# Altium schematic symbol library kmilo17pet-LT_OpAmp_LT2000.SchLib: 1710 symbols (part 12 of 75)
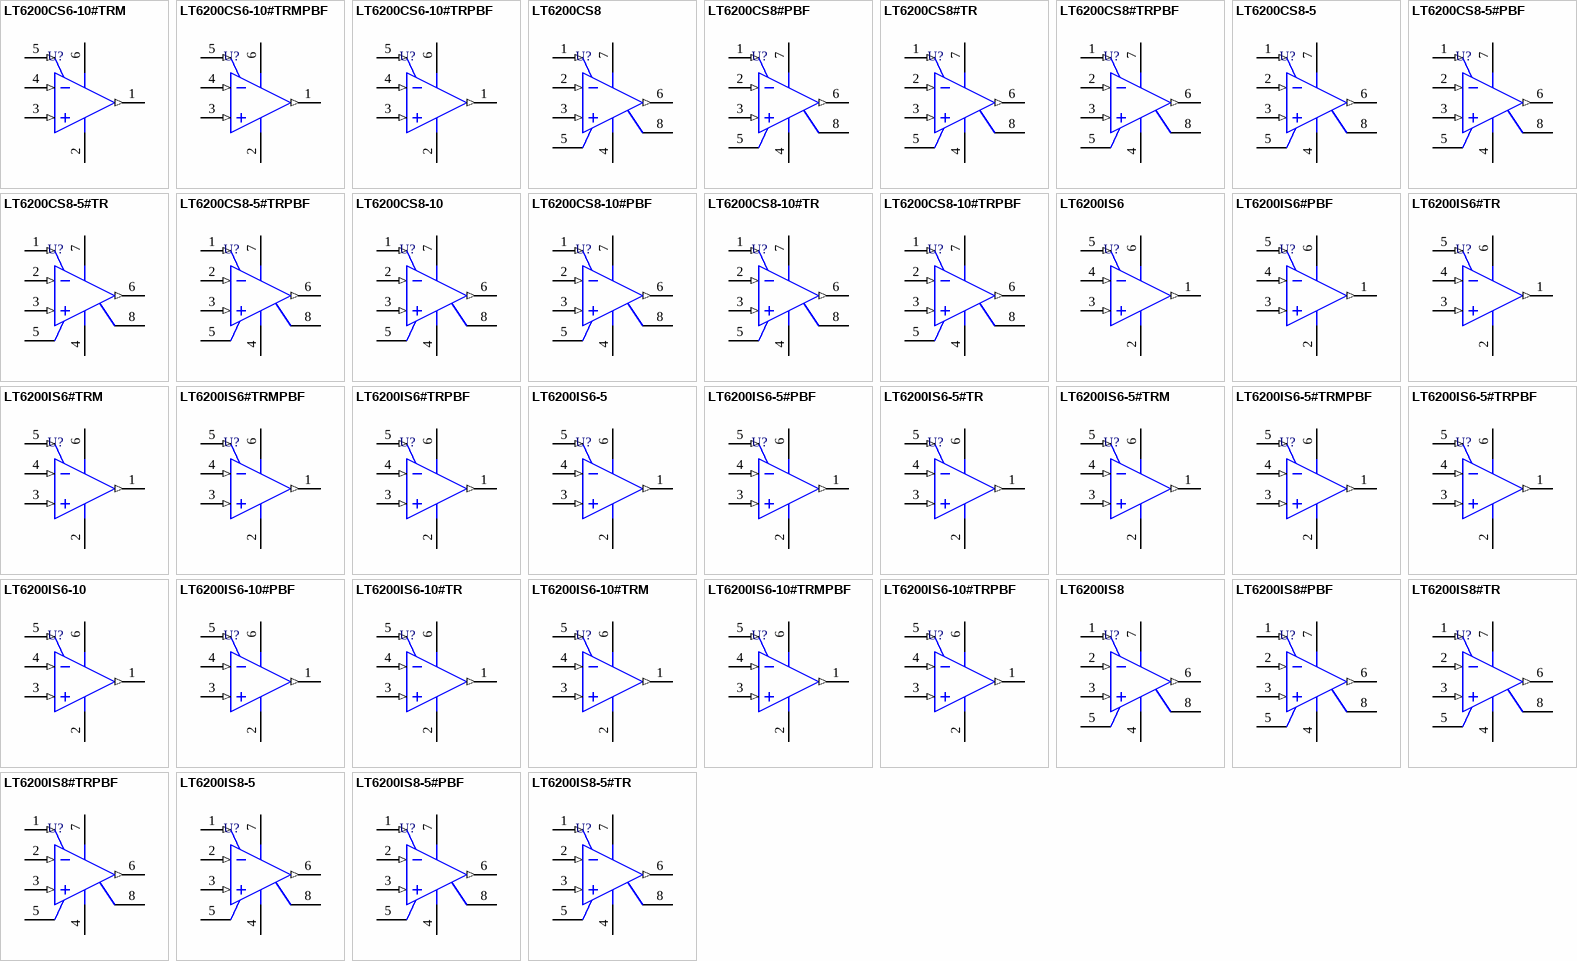
[diagram p91: symbols LT6200CS6-10#TRM to LT6200IS8-5#TR]

## LT6200IS6-5#TRM
designator U?
Single Channel, Low Noise, High Speed Operational Amplifier, RRIO, 750 MHz Typical GBW, 210 V/us Typical SR, 2.5 to 12.6 V, 6-Pin SOT23 (S6-6), Industrial, Mini Reel; Linear Technology Part Number: LT6200-5; Manufacturer: Linear Technology; PartNumber: LT6200IS6-5#TRM; Channels (#): 1; GBW (MHz) Typical: 750; Is (mA) Typical: 20; SR (V/us) Typical: 210; Vos (mV) Typical: 0.1; Vs Max (V): 12.6; Vs Min (V): 2.5; DatasheetVersion: Rev. F; PackageReference: LT-S6-6-TSOT-23; PackageDescription: 6-Pin Plastic TSOT-23, Body 2.9 x 1.63 mm, Pitch 0.95 mm; Supplier 1: Digi-Key; Supplier Part Number 1: LT6200IS6-5#TRM-ND; Packing: Mini Reel; Type: VFB; Vos (mV) Guaranteed: 1; Mounting Technology: Surface Mount; Code_JEDEC: MO-193; ComponentLink1Description: Manufacturer URL; ComponentLink1URL: http://www.linear.com/; ComponentLink2Description: Datasheet; ComponentLink2URL: http://cds.linear.com/docs/en/datasheet/62001ff.pdf; ComponentLink3Description: Package Specification; ComponentLink3URL: http://cds.linear.com/docs/en/packaging/SOT_6_05-08-1636.pdf
footprint LT-S6-6-TSOT-23_N (SOT23, 6-Leads, Body 2.90x1.63mm, Pitch 0.95mm, IPC Medium Density)
footprint LT-S6-6-TSOT-23_L (SOT23, 6-Leads, Body 2.90x1.63mm, Pitch 0.95mm, IPC High Density)
footprint LT-S6-6-TSOT-23_M (SOT23, 6-Leads, Body 2.90x1.63mm, Pitch 0.95mm, IPC Low Density)
pins: 1 OUT (out), 2 V- (power), 3 +IN (in), 4 -IN (in), 5 ~{SHDN} (in), 6 V+ (power)

## LT6200IS6-5#TRMPBF
designator U?
Single Channel, Low Noise, High Speed Operational Amplifier, RRIO, 750 MHz Typical GBW, 210 V/us Typical SR, 2.5 to 12.6 V, 6-Pin SOT23 (S6-6), Industrial, Pb-Free, Mini Reel; Linear Technology Part Number: LT6200-5; Manufacturer: Linear Technology; PartNumber: LT6200IS6-5#TRMPBF; Channels (#): 1; GBW (MHz) Typical: 750; Is (mA) Typical: 20; SR (V/us) Typical: 210; Vos (mV) Typical: 0.1; Vs Max (V): 12.6; Vs Min (V): 2.5; DatasheetVersion: Rev. F; PackageReference: LT-S6-6-TSOT-23; PackageDescription: 6-Pin Plastic TSOT-23, Body 2.9 x 1.63 mm, Pitch 0.95 mm; Supplier 1: Digi-Key; Supplier Part Number 1: LT6200IS6-5#TRMPBF-ND; Packing: Mini Reel; RoHS: Pb-Free; Type: VFB; Vos (mV) Guaranteed: 1; Mounting Technology: Surface Mount; Code_JEDEC: MO-193; ComponentLink1Description: Manufacturer URL; ComponentLink1URL: http://www.linear.com/; ComponentLink2Description: Datasheet; ComponentLink2URL: http://cds.linear.com/docs/en/datasheet/62001ff.pdf; ComponentLink3Description: Package Specification; ComponentLink3URL: http://cds.linear.com/docs/en/packaging/SOT_6_05-08-1636.pdf
footprint LT-S6-6-TSOT-23_N (SOT23, 6-Leads, Body 2.90x1.63mm, Pitch 0.95mm, IPC Medium Density)
footprint LT-S6-6-TSOT-23_L (SOT23, 6-Leads, Body 2.90x1.63mm, Pitch 0.95mm, IPC High Density)
footprint LT-S6-6-TSOT-23_M (SOT23, 6-Leads, Body 2.90x1.63mm, Pitch 0.95mm, IPC Low Density)
pins: 1 OUT (out), 2 V- (power), 3 +IN (in), 4 -IN (in), 5 ~{SHDN} (in), 6 V+ (power)

## LT6200IS6-5#TRPBF
designator U?
Single Channel, Low Noise, High Speed Operational Amplifier, RRIO, 750 MHz Typical GBW, 210 V/us Typical SR, 2.5 to 12.6 V, 6-Pin SOT23 (S6-6), Industrial, Pb-Free, Reel; Linear Technology Part Number: LT6200-5; Manufacturer: Linear Technology; PartNumber: LT6200IS6-5#TRPBF; Channels (#): 1; GBW (MHz) Typical: 750; Is (mA) Typical: 20; SR (V/us) Typical: 210; Vos (mV) Typical: 0.1; Vs Max (V): 12.6; Vs Min (V): 2.5; DatasheetVersion: Rev. F; PackageReference: LT-S6-6-TSOT-23; PackageDescription: 6-Pin Plastic TSOT-23, Body 2.9 x 1.63 mm, Pitch 0.95 mm; Supplier 1: Digi-Key; Supplier Part Number 1: LT6200IS6-5#TRPBF-ND; Packing: Reel; RoHS: Pb-Free; Type: VFB; Vos (mV) Guaranteed: 1; Mounting Technology: Surface Mount; Code_JEDEC: MO-193; ComponentLink1Description: Manufacturer URL; ComponentLink1URL: http://www.linear.com/; ComponentLink2Description: Datasheet; ComponentLink2URL: http://cds.linear.com/docs/en/datasheet/62001ff.pdf; ComponentLink3Description: Package Specification; ComponentLink3URL: http://cds.linear.com/docs/en/packaging/SOT_6_05-08-1636.pdf
footprint LT-S6-6-TSOT-23_N (SOT23, 6-Leads, Body 2.90x1.63mm, Pitch 0.95mm, IPC Medium Density)
footprint LT-S6-6-TSOT-23_L (SOT23, 6-Leads, Body 2.90x1.63mm, Pitch 0.95mm, IPC High Density)
footprint LT-S6-6-TSOT-23_M (SOT23, 6-Leads, Body 2.90x1.63mm, Pitch 0.95mm, IPC Low Density)
pins: 1 OUT (out), 2 V- (power), 3 +IN (in), 4 -IN (in), 5 ~{SHDN} (in), 6 V+ (power)

## LT6200IS6-10
designator U?
Single Channel, Low Noise, High Speed Operational Amplifier, RRIO, 1450 MHz Typical GBW, 340 V/us Typical SR, 2.5 to 12.6 V, 6-Pin SOT23 (S6-6), Industrial; Linear Technology Part Number: LT6200-10; Manufacturer: Linear Technology; PartNumber: LT6200IS6-10; Channels (#): 1; GBW (MHz) Typical: 1450; Is (mA) Typical: 20; SR (V/us) Typical: 340; Vos (mV) Typical: 0.1; Vs Max (V): 12.6; Vs Min (V): 2.5; DatasheetVersion: Rev. F; PackageReference: LT-S6-6-TSOT-23; PackageDescription: 6-Pin Plastic TSOT-23, Body 2.9 x 1.63 mm, Pitch 0.95 mm; Type: VFB; Vos (mV) Guaranteed: 1; Mounting Technology: Surface Mount; Code_JEDEC: MO-193; ComponentLink1Description: Manufacturer URL; ComponentLink1URL: http://www.linear.com/; ComponentLink2Description: Datasheet; ComponentLink2URL: http://cds.linear.com/docs/en/datasheet/62001ff.pdf; ComponentLink3Description: Package Specification; ComponentLink3URL: http://cds.linear.com/docs/en/packaging/SOT_6_05-08-1636.pdf
footprint LT-S6-6-TSOT-23_N (SOT23, 6-Leads, Body 2.90x1.63mm, Pitch 0.95mm, IPC Medium Density)
footprint LT-S6-6-TSOT-23_L (SOT23, 6-Leads, Body 2.90x1.63mm, Pitch 0.95mm, IPC High Density)
footprint LT-S6-6-TSOT-23_M (SOT23, 6-Leads, Body 2.90x1.63mm, Pitch 0.95mm, IPC Low Density)
pins: 1 OUT (out), 2 V- (power), 3 +IN (in), 4 -IN (in), 5 ~{SHDN} (in), 6 V+ (power)

## LT6200IS6-10#PBF
designator U?
Single Channel, Low Noise, High Speed Operational Amplifier, RRIO, 1450 MHz Typical GBW, 340 V/us Typical SR, 2.5 to 12.6 V, 6-Pin SOT23 (S6-6), Industrial, Pb-Free; Linear Technology Part Number: LT6200-10; Manufacturer: Linear Technology; PartNumber: LT6200IS6-10#PBF; Channels (#): 1; GBW (MHz) Typical: 1450; Is (mA) Typical: 20; SR (V/us) Typical: 340; Vos (mV) Typical: 0.1; Vs Max (V): 12.6; Vs Min (V): 2.5; DatasheetVersion: Rev. F; PackageReference: LT-S6-6-TSOT-23; PackageDescription: 6-Pin Plastic TSOT-23, Body 2.9 x 1.63 mm, Pitch 0.95 mm; Supplier 1: Newark; Supplier Part Number 1: 78T4163; RoHS: Pb-Free; Type: VFB; Vos (mV) Guaranteed: 1; Mounting Technology: Surface Mount; Code_JEDEC: MO-193; ComponentLink1Description: Manufacturer URL; ComponentLink1URL: http://www.linear.com/; ComponentLink2Description: Datasheet; ComponentLink2URL: http://cds.linear.com/docs/en/datasheet/62001ff.pdf; ComponentLink3Description: Package Specification; ComponentLink3URL: http://cds.linear.com/docs/en/packaging/SOT_6_05-08-1636.pdf
footprint LT-S6-6-TSOT-23_N (SOT23, 6-Leads, Body 2.90x1.63mm, Pitch 0.95mm, IPC Medium Density)
footprint LT-S6-6-TSOT-23_L (SOT23, 6-Leads, Body 2.90x1.63mm, Pitch 0.95mm, IPC High Density)
footprint LT-S6-6-TSOT-23_M (SOT23, 6-Leads, Body 2.90x1.63mm, Pitch 0.95mm, IPC Low Density)
pins: 1 OUT (out), 2 V- (power), 3 +IN (in), 4 -IN (in), 5 ~{SHDN} (in), 6 V+ (power)

## LT6200IS6-10#TR
designator U?
Single Channel, Low Noise, High Speed Operational Amplifier, RRIO, 1450 MHz Typical GBW, 340 V/us Typical SR, 2.5 to 12.6 V, 6-Pin SOT23 (S6-6), Industrial, Reel; Linear Technology Part Number: LT6200-10; Manufacturer: Linear Technology; PartNumber: LT6200IS6-10#TR; Channels (#): 1; GBW (MHz) Typical: 1450; Is (mA) Typical: 20; SR (V/us) Typical: 340; Vos (mV) Typical: 0.1; Vs Max (V): 12.6; Vs Min (V): 2.5; DatasheetVersion: Rev. F; PackageReference: LT-S6-6-TSOT-23; PackageDescription: 6-Pin Plastic TSOT-23, Body 2.9 x 1.63 mm, Pitch 0.95 mm; Supplier 1: Digi-Key; Supplier Part Number 1: LT6200IS6-10#TR-ND; Packing: Reel; Type: VFB; Vos (mV) Guaranteed: 1; Mounting Technology: Surface Mount; Code_JEDEC: MO-193; ComponentLink1Description: Manufacturer URL; ComponentLink1URL: http://www.linear.com/; ComponentLink2Description: Datasheet; ComponentLink2URL: http://cds.linear.com/docs/en/datasheet/62001ff.pdf; ComponentLink3Description: Package Specification; ComponentLink3URL: http://cds.linear.com/docs/en/packaging/SOT_6_05-08-1636.pdf
footprint LT-S6-6-TSOT-23_N (SOT23, 6-Leads, Body 2.90x1.63mm, Pitch 0.95mm, IPC Medium Density)
footprint LT-S6-6-TSOT-23_L (SOT23, 6-Leads, Body 2.90x1.63mm, Pitch 0.95mm, IPC High Density)
footprint LT-S6-6-TSOT-23_M (SOT23, 6-Leads, Body 2.90x1.63mm, Pitch 0.95mm, IPC Low Density)
pins: 1 OUT (out), 2 V- (power), 3 +IN (in), 4 -IN (in), 5 ~{SHDN} (in), 6 V+ (power)

## LT6200IS6-10#TRM
designator U?
Single Channel, Low Noise, High Speed Operational Amplifier, RRIO, 1450 MHz Typical GBW, 340 V/us Typical SR, 2.5 to 12.6 V, 6-Pin SOT23 (S6-6), Industrial, Mini Reel; Linear Technology Part Number: LT6200-10; Manufacturer: Linear Technology; PartNumber: LT6200IS6-10#TRM; Channels (#): 1; GBW (MHz) Typical: 1450; Is (mA) Typical: 20; SR (V/us) Typical: 340; Vos (mV) Typical: 0.1; Vs Max (V): 12.6; Vs Min (V): 2.5; DatasheetVersion: Rev. F; PackageReference: LT-S6-6-TSOT-23; PackageDescription: 6-Pin Plastic TSOT-23, Body 2.9 x 1.63 mm, Pitch 0.95 mm; Supplier 1: Digi-Key; Supplier Part Number 1: LT6200IS6-10#TRM-ND; Packing: Mini Reel; Type: VFB; Vos (mV) Guaranteed: 1; Mounting Technology: Surface Mount; Code_JEDEC: MO-193; ComponentLink1Description: Manufacturer URL; ComponentLink1URL: http://www.linear.com/; ComponentLink2Description: Datasheet; ComponentLink2URL: http://cds.linear.com/docs/en/datasheet/62001ff.pdf; ComponentLink3Description: Package Specification; ComponentLink3URL: http://cds.linear.com/docs/en/packaging/SOT_6_05-08-1636.pdf
footprint LT-S6-6-TSOT-23_N (SOT23, 6-Leads, Body 2.90x1.63mm, Pitch 0.95mm, IPC Medium Density)
footprint LT-S6-6-TSOT-23_L (SOT23, 6-Leads, Body 2.90x1.63mm, Pitch 0.95mm, IPC High Density)
footprint LT-S6-6-TSOT-23_M (SOT23, 6-Leads, Body 2.90x1.63mm, Pitch 0.95mm, IPC Low Density)
pins: 1 OUT (out), 2 V- (power), 3 +IN (in), 4 -IN (in), 5 ~{SHDN} (in), 6 V+ (power)

## LT6200IS6-10#TRMPBF
designator U?
Single Channel, Low Noise, High Speed Operational Amplifier, RRIO, 1450 MHz Typical GBW, 340 V/us Typical SR, 2.5 to 12.6 V, 6-Pin SOT23 (S6-6), Industrial, Pb-Free, Mini Reel; Linear Technology Part Number: LT6200-10; Manufacturer: Linear Technology; PartNumber: LT6200IS6-10#TRMPBF; Channels (#): 1; GBW (MHz) Typical: 1450; Is (mA) Typical: 20; SR (V/us) Typical: 340; Vos (mV) Typical: 0.1; Vs Max (V): 12.6; Vs Min (V): 2.5; DatasheetVersion: Rev. F; PackageReference: LT-S6-6-TSOT-23; PackageDescription: 6-Pin Plastic TSOT-23, Body 2.9 x 1.63 mm, Pitch 0.95 mm; Supplier 1: Digi-Key; Supplier Part Number 1: LT6200IS6-10#TRMPBF-ND; Packing: Mini Reel; RoHS: Pb-Free; Type: VFB; Vos (mV) Guaranteed: 1; Mounting Technology: Surface Mount; Code_JEDEC: MO-193; ComponentLink1Description: Manufacturer URL; ComponentLink1URL: http://www.linear.com/; ComponentLink2Description: Datasheet; ComponentLink2URL: http://cds.linear.com/docs/en/datasheet/62001ff.pdf; ComponentLink3Description: Package Specification; ComponentLink3URL: http://cds.linear.com/docs/en/packaging/SOT_6_05-08-1636.pdf
footprint LT-S6-6-TSOT-23_N (SOT23, 6-Leads, Body 2.90x1.63mm, Pitch 0.95mm, IPC Medium Density)
footprint LT-S6-6-TSOT-23_L (SOT23, 6-Leads, Body 2.90x1.63mm, Pitch 0.95mm, IPC High Density)
footprint LT-S6-6-TSOT-23_M (SOT23, 6-Leads, Body 2.90x1.63mm, Pitch 0.95mm, IPC Low Density)
pins: 1 OUT (out), 2 V- (power), 3 +IN (in), 4 -IN (in), 5 ~{SHDN} (in), 6 V+ (power)

## LT6200IS6-10#TRPBF
designator U?
Single Channel, Low Noise, High Speed Operational Amplifier, RRIO, 1450 MHz Typical GBW, 340 V/us Typical SR, 2.5 to 12.6 V, 6-Pin SOT23 (S6-6), Industrial, Pb-Free, Reel; Linear Technology Part Number: LT6200-10; Manufacturer: Linear Technology; PartNumber: LT6200IS6-10#TRPBF; Channels (#): 1; GBW (MHz) Typical: 1450; Is (mA) Typical: 20; SR (V/us) Typical: 340; Vos (mV) Typical: 0.1; Vs Max (V): 12.6; Vs Min (V): 2.5; DatasheetVersion: Rev. F; PackageReference: LT-S6-6-TSOT-23; PackageDescription: 6-Pin Plastic TSOT-23, Body 2.9 x 1.63 mm, Pitch 0.95 mm; Supplier 1: Digi-Key; Supplier Part Number 1: LT6200IS6-10#TRPBF-ND; Packing: Reel; RoHS: Pb-Free; Type: VFB; Vos (mV) Guaranteed: 1; Mounting Technology: Surface Mount; Code_JEDEC: MO-193; ComponentLink1Description: Manufacturer URL; ComponentLink1URL: http://www.linear.com/; ComponentLink2Description: Datasheet; ComponentLink2URL: http://cds.linear.com/docs/en/datasheet/62001ff.pdf; ComponentLink3Description: Package Specification; ComponentLink3URL: http://cds.linear.com/docs/en/packaging/SOT_6_05-08-1636.pdf
footprint LT-S6-6-TSOT-23_N (SOT23, 6-Leads, Body 2.90x1.63mm, Pitch 0.95mm, IPC Medium Density)
footprint LT-S6-6-TSOT-23_L (SOT23, 6-Leads, Body 2.90x1.63mm, Pitch 0.95mm, IPC High Density)
footprint LT-S6-6-TSOT-23_M (SOT23, 6-Leads, Body 2.90x1.63mm, Pitch 0.95mm, IPC Low Density)
pins: 1 OUT (out), 2 V- (power), 3 +IN (in), 4 -IN (in), 5 ~{SHDN} (in), 6 V+ (power)

## LT6200IS8
designator U?
Single Channel, Low Noise, High Speed Operational Amplifier, RRIO, Unity Gain Stable, 165 MHz Typical GBW, 44 V/us Typical SR, 2.5 to 12.6 V, 8-Pin SOIC (S8-8), Industrial; Linear Technology Part Number: LT6200; Manufacturer: Linear Technology; PartNumber: LT6200IS8; Channels (#): 1; GBW (MHz) Typical: 165; Is (mA) Typical: 20; SR (V/us) Typical: 44; Vos (mV) Typical: 0.1; Vs Max (V): 12.6; Vs Min (V): 2.5; DatasheetVersion: Rev. F; PackageVersion: Rev G; PackageReference: LT-S8-8; PackageDescription: 8-Pin Plastic Small Outline, Body 4.9 x 3.9 mm, Pitch 1.27 mm; Supplier 1: Digi-Key; Supplier Part Number 1: LT6200IS8-ND; Type: VFB; Vos (mV) Guaranteed: 1; Mounting Technology: Surface Mount; ComponentLink1Description: Manufacturer URL; ComponentLink1URL: http://www.linear.com/; ComponentLink2Description: Datasheet; ComponentLink2URL: http://cds.linear.com/docs/en/datasheet/62001ff.pdf; ComponentLink3Description: Package Specification; ComponentLink3URL: http://cds.linear.com/docs/en/packaging/05081610_G_SO8.pdf
footprint LT-S8-8_N (SOIC, 8-Leads, Body 4.9x3.9mm, Pitch 1.27mm, IPC Medium Density)
footprint LT-S8-8_L (SOIC, 8-Leads, Body 4.9x3.9mm, Pitch 1.27mm, IPC High Density)
footprint LT-S8-8_M (SOIC, 8-Leads, Body 4.9x3.9mm, Pitch 1.27mm, IPC Low Density)
pins: 1 ~{SHDN} (in), 2 -IN (in), 3 +IN (in), 4 V- (power), 5 NC, 6 OUT (out), 7 V+ (power), 8 NC

## LT6200IS8#PBF
designator U?
Single Channel, Low Noise, High Speed Operational Amplifier, RRIO, Unity Gain Stable, 165 MHz Typical GBW, 44 V/us Typical SR, 2.5 to 12.6 V, 8-Pin SOIC (S8-8), Industrial, Pb-Free; Linear Technology Part Number: LT6200; Manufacturer: Linear Technology; PartNumber: LT6200IS8#PBF; Channels (#): 1; GBW (MHz) Typical: 165; Is (mA) Typical: 20; SR (V/us) Typical: 44; Vos (mV) Typical: 0.1; Vs Max (V): 12.6; Vs Min (V): 2.5; DatasheetVersion: Rev. F; PackageVersion: Rev G; PackageReference: LT-S8-8; PackageDescription: 8-Pin Plastic Small Outline, Body 4.9 x 3.9 mm, Pitch 1.27 mm; Supplier 1: Digi-Key; Supplier Part Number 1: LT6200IS8#PBF-ND; Supplier 2: Farnell; Supplier Part Number 2: 2308595; Supplier 3: Newark; Supplier Part Number 3: 57M9185; RoHS: Pb-Free; Type: VFB; Vos (mV) Guaranteed: 1; Mounting Technology: Surface Mount; ComponentLink1Description: Manufacturer URL; ComponentLink1URL: http://www.linear.com/; ComponentLink2Description: Datasheet; ComponentLink2URL: http://cds.linear.com/docs/en/datasheet/62001ff.pdf; ComponentLink3Description: Package Specification; ComponentLink3URL: http://cds.linear.com/docs/en/packaging/05081610_G_SO8.pdf
footprint LT-S8-8_N (SOIC, 8-Leads, Body 4.9x3.9mm, Pitch 1.27mm, IPC Medium Density)
footprint LT-S8-8_L (SOIC, 8-Leads, Body 4.9x3.9mm, Pitch 1.27mm, IPC High Density)
footprint LT-S8-8_M (SOIC, 8-Leads, Body 4.9x3.9mm, Pitch 1.27mm, IPC Low Density)
pins: 1 ~{SHDN} (in), 2 -IN (in), 3 +IN (in), 4 V- (power), 5 NC, 6 OUT (out), 7 V+ (power), 8 NC

## LT6200IS8#TR
designator U?
Single Channel, Low Noise, High Speed Operational Amplifier, RRIO, Unity Gain Stable, 165 MHz Typical GBW, 44 V/us Typical SR, 2.5 to 12.6 V, 8-Pin SOIC (S8-8), Industrial, Reel; Linear Technology Part Number: LT6200; Manufacturer: Linear Technology; PartNumber: LT6200IS8#TR; Channels (#): 1; GBW (MHz) Typical: 165; Is (mA) Typical: 20; SR (V/us) Typical: 44; Vos (mV) Typical: 0.1; Vs Max (V): 12.6; Vs Min (V): 2.5; DatasheetVersion: Rev. F; PackageVersion: Rev G; PackageReference: LT-S8-8; PackageDescription: 8-Pin Plastic Small Outline, Body 4.9 x 3.9 mm, Pitch 1.27 mm; Supplier 1: Digi-Key; Supplier Part Number 1: LT6200IS8#TR-ND; Packing: Reel; Type: VFB; Vos (mV) Guaranteed: 1; Mounting Technology: Surface Mount; ComponentLink1Description: Manufacturer URL; ComponentLink1URL: http://www.linear.com/; ComponentLink2Description: Datasheet; ComponentLink2URL: http://cds.linear.com/docs/en/datasheet/62001ff.pdf; ComponentLink3Description: Package Specification; ComponentLink3URL: http://cds.linear.com/docs/en/packaging/05081610_G_SO8.pdf
footprint LT-S8-8_N (SOIC, 8-Leads, Body 4.9x3.9mm, Pitch 1.27mm, IPC Medium Density)
footprint LT-S8-8_L (SOIC, 8-Leads, Body 4.9x3.9mm, Pitch 1.27mm, IPC High Density)
footprint LT-S8-8_M (SOIC, 8-Leads, Body 4.9x3.9mm, Pitch 1.27mm, IPC Low Density)
pins: 1 ~{SHDN} (in), 2 -IN (in), 3 +IN (in), 4 V- (power), 5 NC, 6 OUT (out), 7 V+ (power), 8 NC

## LT6200IS8#TRPBF
designator U?
Single Channel, Low Noise, High Speed Operational Amplifier, RRIO, Unity Gain Stable, 165 MHz Typical GBW, 44 V/us Typical SR, 2.5 to 12.6 V, 8-Pin SOIC (S8-8), Industrial, Pb-Free, Reel; Linear Technology Part Number: LT6200; Manufacturer: Linear Technology; PartNumber: LT6200IS8#TRPBF; Channels (#): 1; GBW (MHz) Typical: 165; Is (mA) Typical: 20; SR (V/us) Typical: 44; Vos (mV) Typical: 0.1; Vs Max (V): 12.6; Vs Min (V): 2.5; DatasheetVersion: Rev. F; PackageVersion: Rev G; PackageReference: LT-S8-8; PackageDescription: 8-Pin Plastic Small Outline, Body 4.9 x 3.9 mm, Pitch 1.27 mm; Supplier 1: Digi-Key; Supplier Part Number 1: LT6200IS8#TRPBF-ND; Packing: Reel; RoHS: Pb-Free; Type: VFB; Vos (mV) Guaranteed: 1; Mounting Technology: Surface Mount; ComponentLink1Description: Manufacturer URL; ComponentLink1URL: http://www.linear.com/; ComponentLink2Description: Datasheet; ComponentLink2URL: http://cds.linear.com/docs/en/datasheet/62001ff.pdf; ComponentLink3Description: Package Specification; ComponentLink3URL: http://cds.linear.com/docs/en/packaging/05081610_G_SO8.pdf
footprint LT-S8-8_N (SOIC, 8-Leads, Body 4.9x3.9mm, Pitch 1.27mm, IPC Medium Density)
footprint LT-S8-8_L (SOIC, 8-Leads, Body 4.9x3.9mm, Pitch 1.27mm, IPC High Density)
footprint LT-S8-8_M (SOIC, 8-Leads, Body 4.9x3.9mm, Pitch 1.27mm, IPC Low Density)
pins: 1 ~{SHDN} (in), 2 -IN (in), 3 +IN (in), 4 V- (power), 5 NC, 6 OUT (out), 7 V+ (power), 8 NC

## LT6200IS8-5
designator U?
Single Channel, Low Noise, High Speed Operational Amplifier, RRIO, 750 MHz Typical GBW, 210 V/us Typical SR, 2.5 to 12.6 V, 8-Pin SOIC (S8-8), Industrial; Linear Technology Part Number: LT6200-5; Manufacturer: Linear Technology; PartNumber: LT6200IS8-5; Channels (#): 1; GBW (MHz) Typical: 750; Is (mA) Typical: 20; SR (V/us) Typical: 210; Vos (mV) Typical: 0.1; Vs Max (V): 12.6; Vs Min (V): 2.5; DatasheetVersion: Rev. F; PackageVersion: Rev G; PackageReference: LT-S8-8; PackageDescription: 8-Pin Plastic Small Outline, Body 4.9 x 3.9 mm, Pitch 1.27 mm; Supplier 1: Digi-Key; Supplier Part Number 1: LT6200IS8-5-ND; Type: VFB; Vos (mV) Guaranteed: 1; Mounting Technology: Surface Mount; ComponentLink1Description: Manufacturer URL; ComponentLink1URL: http://www.linear.com/; ComponentLink2Description: Datasheet; ComponentLink2URL: http://cds.linear.com/docs/en/datasheet/62001ff.pdf; ComponentLink3Description: Package Specification; ComponentLink3URL: http://cds.linear.com/docs/en/packaging/05081610_G_SO8.pdf
footprint LT-S8-8_N (SOIC, 8-Leads, Body 4.9x3.9mm, Pitch 1.27mm, IPC Medium Density)
footprint LT-S8-8_L (SOIC, 8-Leads, Body 4.9x3.9mm, Pitch 1.27mm, IPC High Density)
footprint LT-S8-8_M (SOIC, 8-Leads, Body 4.9x3.9mm, Pitch 1.27mm, IPC Low Density)
pins: 1 ~{SHDN} (in), 2 -IN (in), 3 +IN (in), 4 V- (power), 5 NC, 6 OUT (out), 7 V+ (power), 8 NC

## LT6200IS8-5#PBF
designator U?
Single Channel, Low Noise, High Speed Operational Amplifier, RRIO, 750 MHz Typical GBW, 210 V/us Typical SR, 2.5 to 12.6 V, 8-Pin SOIC (S8-8), Industrial, Pb-Free; Linear Technology Part Number: LT6200; Manufacturer: Linear Technology; PartNumber: LT6200IS8-5#PBF; Channels (#): 1; GBW (MHz) Typical: 165; Is (mA) Typical: 20; SR (V/us) Typical: 44; Vos (mV) Typical: 0.1; Vs Max (V): 12.6; Vs Min (V): 2.5; DatasheetVersion: Rev. F; PackageVersion: Rev G; PackageReference: LT-S8-8; PackageDescription: 8-Pin Plastic Small Outline, Body 4.9 x 3.9 mm, Pitch 1.27 mm; Supplier 1: Digi-Key; Supplier Part Number 1: LT6200IS8-5#PBF-ND; RoHS: Pb-Free; Type: VFB; Vos (mV) Guaranteed: 1; Mounting Technology: Surface Mount; ComponentLink1Description: Manufacturer URL; ComponentLink1URL: http://www.linear.com/; ComponentLink2Description: Datasheet; ComponentLink2URL: http://cds.linear.com/docs/en/datasheet/62001ff.pdf; ComponentLink3Description: Package Specification; ComponentLink3URL: http://cds.linear.com/docs/en/packaging/05081610_G_SO8.pdf
footprint LT-S8-8_N (SOIC, 8-Leads, Body 4.9x3.9mm, Pitch 1.27mm, IPC Medium Density)
footprint LT-S8-8_L (SOIC, 8-Leads, Body 4.9x3.9mm, Pitch 1.27mm, IPC High Density)
footprint LT-S8-8_M (SOIC, 8-Leads, Body 4.9x3.9mm, Pitch 1.27mm, IPC Low Density)
pins: 1 ~{SHDN} (in), 2 -IN (in), 3 +IN (in), 4 V- (power), 5 NC, 6 OUT (out), 7 V+ (power), 8 NC

## LT6200IS8-5#TR
designator U?
Single Channel, Low Noise, High Speed Operational Amplifier, RRIO, 750 MHz Typical GBW, 210 V/us Typical SR, 2.5 to 12.6 V, 8-Pin SOIC (S8-8), Industrial, Reel; Linear Technology Part Number: LT6200; Manufacturer: Linear Technology; PartNumber: LT6200IS8-5#TR; Channels (#): 1; GBW (MHz) Typical: 165; Is (mA) Typical: 20; SR (V/us) Typical: 44; Vos (mV) Typical: 0.1; Vs Max (V): 12.6; Vs Min (V): 2.5; DatasheetVersion: Rev. F; PackageVersion: Rev G; PackageReference: LT-S8-8; PackageDescription: 8-Pin Plastic Small Outline, Body 4.9 x 3.9 mm, Pitch 1.27 mm; Supplier 1: Digi-Key; Supplier Part Number 1: LT6200IS8-5#TR-ND; Packing: Reel; Type: VFB; Vos (mV) Guaranteed: 1; Mounting Technology: Surface Mount; ComponentLink1Description: Manufacturer URL; ComponentLink1URL: http://www.linear.com/; ComponentLink2Description: Datasheet; ComponentLink2URL: http://cds.linear.com/docs/en/datasheet/62001ff.pdf; ComponentLink3Description: Package Specification; ComponentLink3URL: http://cds.linear.com/docs/en/packaging/05081610_G_SO8.pdf
footprint LT-S8-8_N (SOIC, 8-Leads, Body 4.9x3.9mm, Pitch 1.27mm, IPC Medium Density)
footprint LT-S8-8_L (SOIC, 8-Leads, Body 4.9x3.9mm, Pitch 1.27mm, IPC High Density)
footprint LT-S8-8_M (SOIC, 8-Leads, Body 4.9x3.9mm, Pitch 1.27mm, IPC Low Density)
pins: 1 ~{SHDN} (in), 2 -IN (in), 3 +IN (in), 4 V- (power), 5 NC, 6 OUT (out), 7 V+ (power), 8 NC

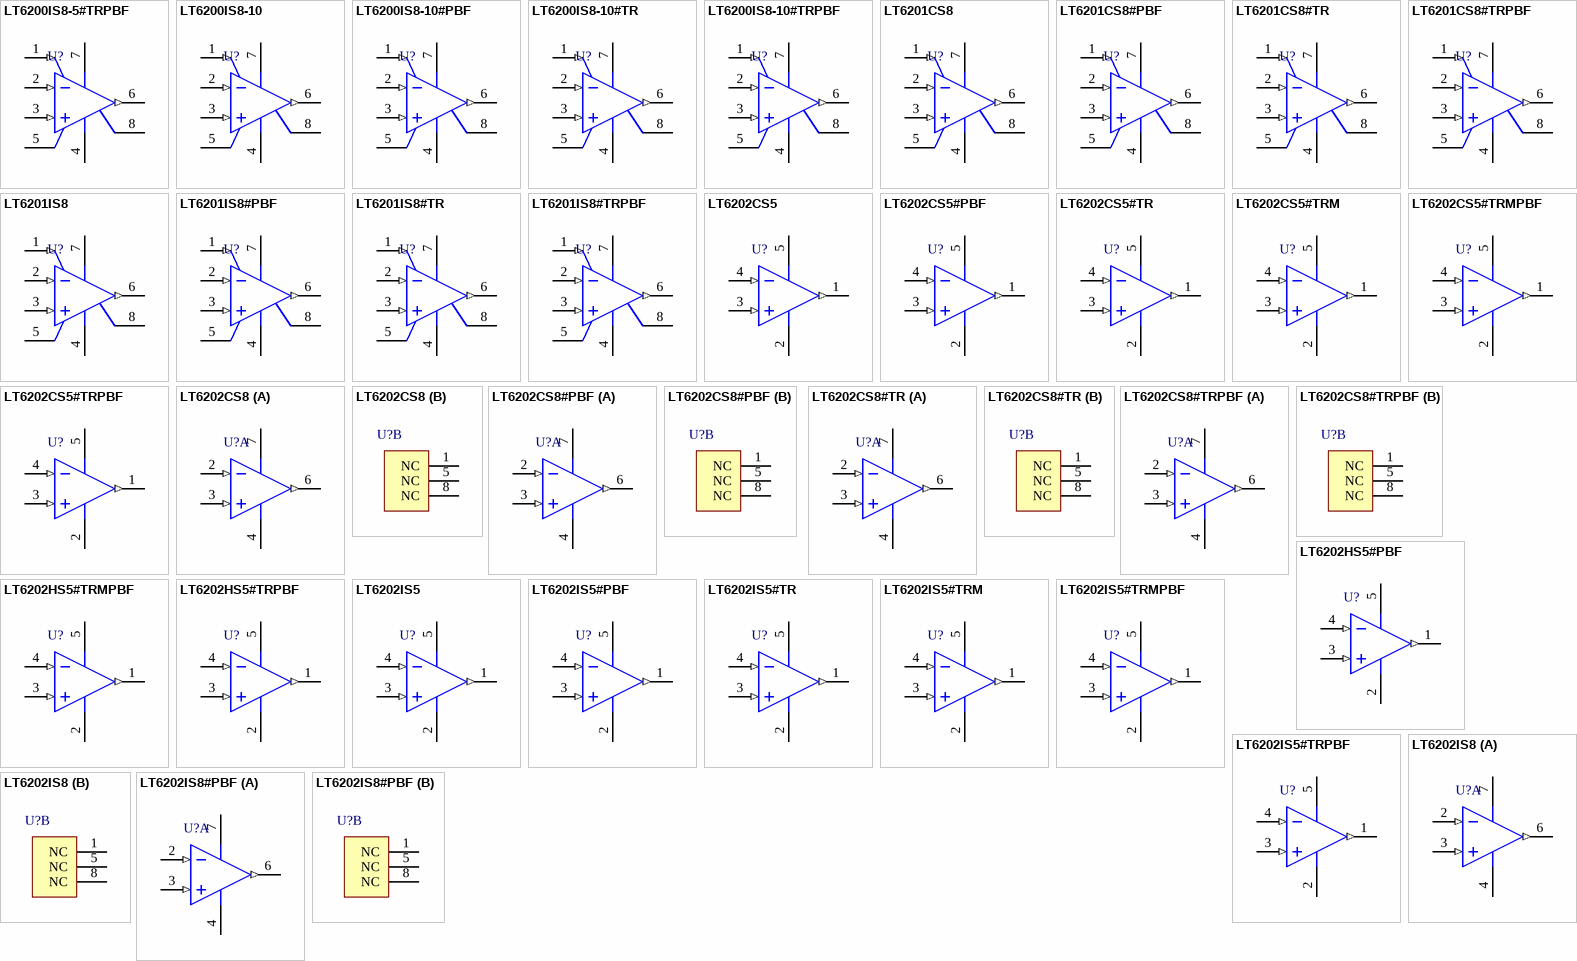
[diagram p18: symbols LT6200IS8-5#TRPBF to LT6202IS8#PBF]

## LT6200IS8-5#TRPBF
designator U?
Single Channel, Low Noise, High Speed Operational Amplifier, RRIO, 750 MHz Typical GBW, 210 V/us Typical SR, 2.5 to 12.6 V, 8-Pin SOIC (S8-8), Industrial, Pb-Free, Reel; Linear Technology Part Number: LT6200; Manufacturer: Linear Technology; PartNumber: LT6200IS8-5#TRPBF; Channels (#): 1; GBW (MHz) Typical: 165; Is (mA) Typical: 20; SR (V/us) Typical: 44; Vos (mV) Typical: 0.1; Vs Max (V): 12.6; Vs Min (V): 2.5; DatasheetVersion: Rev. F; PackageVersion: Rev G; PackageReference: LT-S8-8; PackageDescription: 8-Pin Plastic Small Outline, Body 4.9 x 3.9 mm, Pitch 1.27 mm; Supplier 1: Digi-Key; Supplier Part Number 1: LT6200IS8-5#TRPBF-ND; Packing: Reel; RoHS: Pb-Free; Type: VFB; Vos (mV) Guaranteed: 1; Mounting Technology: Surface Mount; ComponentLink1Description: Manufacturer URL; ComponentLink1URL: http://www.linear.com/; ComponentLink2Description: Datasheet; ComponentLink2URL: http://cds.linear.com/docs/en/datasheet/62001ff.pdf; ComponentLink3Description: Package Specification; ComponentLink3URL: http://cds.linear.com/docs/en/packaging/05081610_G_SO8.pdf
footprint LT-S8-8_N (SOIC, 8-Leads, Body 4.9x3.9mm, Pitch 1.27mm, IPC Medium Density)
footprint LT-S8-8_L (SOIC, 8-Leads, Body 4.9x3.9mm, Pitch 1.27mm, IPC High Density)
footprint LT-S8-8_M (SOIC, 8-Leads, Body 4.9x3.9mm, Pitch 1.27mm, IPC Low Density)
pins: 1 ~{SHDN} (in), 2 -IN (in), 3 +IN (in), 4 V- (power), 5 NC, 6 OUT (out), 7 V+ (power), 8 NC

## LT6200IS8-10
designator U?
Single Channel, Low Noise, High Speed Operational Amplifier, RRIO, 1450 MHz Typical GBW, 340 V/us Typical SR, 2.5 to 12.6 V, 8-Pin SOIC (S8-8), Industrial; Linear Technology Part Number: LT6200-10; Manufacturer: Linear Technology; PartNumber: LT6200IS8-10; Channels (#): 1; GBW (MHz) Typical: 1450; Is (mA) Typical: 20; SR (V/us) Typical: 340; Vos (mV) Typical: 0.1; Vs Max (V): 12.6; Vs Min (V): 2.5; DatasheetVersion: Rev. F; PackageVersion: Rev G; PackageReference: LT-S8-8; PackageDescription: 8-Pin Plastic Small Outline, Body 4.9 x 3.9 mm, Pitch 1.27 mm; Supplier 1: Digi-Key; Supplier Part Number 1: LT6200IS8-10-ND; Type: VFB; Vos (mV) Guaranteed: 1; Mounting Technology: Surface Mount; ComponentLink1Description: Manufacturer URL; ComponentLink1URL: http://www.linear.com/; ComponentLink2Description: Datasheet; ComponentLink2URL: http://cds.linear.com/docs/en/datasheet/62001ff.pdf; ComponentLink3Description: Package Specification; ComponentLink3URL: http://cds.linear.com/docs/en/packaging/05081610_G_SO8.pdf
footprint LT-S8-8_N (SOIC, 8-Leads, Body 4.9x3.9mm, Pitch 1.27mm, IPC Medium Density)
footprint LT-S8-8_L (SOIC, 8-Leads, Body 4.9x3.9mm, Pitch 1.27mm, IPC High Density)
footprint LT-S8-8_M (SOIC, 8-Leads, Body 4.9x3.9mm, Pitch 1.27mm, IPC Low Density)
pins: 1 ~{SHDN} (in), 2 -IN (in), 3 +IN (in), 4 V- (power), 5 NC, 6 OUT (out), 7 V+ (power), 8 NC

## LT6200IS8-10#PBF
designator U?
Single Channel, Low Noise, High Speed Operational Amplifier, RRIO, 1450 MHz Typical GBW, 340 V/us Typical SR, 2.5 to 12.6 V, 8-Pin SOIC (S8-8), Industrial, Pb-Free; Linear Technology Part Number: LT6200-10; Manufacturer: Linear Technology; PartNumber: LT6200IS8-10#PBF; Channels (#): 1; GBW (MHz) Typical: 1450; Is (mA) Typical: 20; SR (V/us) Typical: 340; Vos (mV) Typical: 0.1; Vs Max (V): 12.6; Vs Min (V): 2.5; DatasheetVersion: Rev. F; PackageVersion: Rev G; PackageReference: LT-S8-8; PackageDescription: 8-Pin Plastic Small Outline, Body 4.9 x 3.9 mm, Pitch 1.27 mm; Supplier 1: Digi-Key; Supplier Part Number 1: LT6200IS8-10#PBF-ND; RoHS: Pb-Free; Type: VFB; Vos (mV) Guaranteed: 1; Mounting Technology: Surface Mount; ComponentLink1Description: Manufacturer URL; ComponentLink1URL: http://www.linear.com/; ComponentLink2Description: Datasheet; ComponentLink2URL: http://cds.linear.com/docs/en/datasheet/62001ff.pdf; ComponentLink3Description: Package Specification; ComponentLink3URL: http://cds.linear.com/docs/en/packaging/05081610_G_SO8.pdf
footprint LT-S8-8_N (SOIC, 8-Leads, Body 4.9x3.9mm, Pitch 1.27mm, IPC Medium Density)
footprint LT-S8-8_L (SOIC, 8-Leads, Body 4.9x3.9mm, Pitch 1.27mm, IPC High Density)
footprint LT-S8-8_M (SOIC, 8-Leads, Body 4.9x3.9mm, Pitch 1.27mm, IPC Low Density)
pins: 1 ~{SHDN} (in), 2 -IN (in), 3 +IN (in), 4 V- (power), 5 NC, 6 OUT (out), 7 V+ (power), 8 NC

## LT6200IS8-10#TR
designator U?
Single Channel, Low Noise, High Speed Operational Amplifier, RRIO, 1450 MHz Typical GBW, 340 V/us Typical SR, 2.5 to 12.6 V, 8-Pin SOIC (S8-8), Industrial, Reel; Linear Technology Part Number: LT6200-10; Manufacturer: Linear Technology; PartNumber: LT6200IS8-10#TR; Channels (#): 1; GBW (MHz) Typical: 1450; Is (mA) Typical: 20; SR (V/us) Typical: 340; Vos (mV) Typical: 0.1; Vs Max (V): 12.6; Vs Min (V): 2.5; DatasheetVersion: Rev. F; PackageVersion: Rev G; PackageReference: LT-S8-8; PackageDescription: 8-Pin Plastic Small Outline, Body 4.9 x 3.9 mm, Pitch 1.27 mm; Supplier 1: Digi-Key; Supplier Part Number 1: LT6200IS8-10#TR-ND; Packing: Reel; Type: VFB; Vos (mV) Guaranteed: 1; Mounting Technology: Surface Mount; ComponentLink1Description: Manufacturer URL; ComponentLink1URL: http://www.linear.com/; ComponentLink2Description: Datasheet; ComponentLink2URL: http://cds.linear.com/docs/en/datasheet/62001ff.pdf; ComponentLink3Description: Package Specification; ComponentLink3URL: http://cds.linear.com/docs/en/packaging/05081610_G_SO8.pdf
footprint LT-S8-8_N (SOIC, 8-Leads, Body 4.9x3.9mm, Pitch 1.27mm, IPC Medium Density)
footprint LT-S8-8_L (SOIC, 8-Leads, Body 4.9x3.9mm, Pitch 1.27mm, IPC High Density)
footprint LT-S8-8_M (SOIC, 8-Leads, Body 4.9x3.9mm, Pitch 1.27mm, IPC Low Density)
pins: 1 ~{SHDN} (in), 2 -IN (in), 3 +IN (in), 4 V- (power), 5 NC, 6 OUT (out), 7 V+ (power), 8 NC

## LT6200IS8-10#TRPBF
designator U?
Single Channel, Low Noise, High Speed Operational Amplifier, RRIO, 1450 MHz Typical GBW, 340 V/us Typical SR, 2.5 to 12.6 V, 8-Pin SOIC (S8-8), Industrial, Pb-Free, Reel; Linear Technology Part Number: LT6200-10; Manufacturer: Linear Technology; PartNumber: LT6200IS8-10#TRPBF; Channels (#): 1; GBW (MHz) Typical: 1450; Is (mA) Typical: 20; SR (V/us) Typical: 340; Vos (mV) Typical: 0.1; Vs Max (V): 12.6; Vs Min (V): 2.5; DatasheetVersion: Rev. F; PackageVersion: Rev G; PackageReference: LT-S8-8; PackageDescription: 8-Pin Plastic Small Outline, Body 4.9 x 3.9 mm, Pitch 1.27 mm; Supplier 1: Digi-Key; Supplier Part Number 1: LT6200IS8-10#TRPBF-ND; Packing: Reel; RoHS: Pb-Free; Type: VFB; Vos (mV) Guaranteed: 1; Mounting Technology: Surface Mount; ComponentLink1Description: Manufacturer URL; ComponentLink1URL: http://www.linear.com/; ComponentLink2Description: Datasheet; ComponentLink2URL: http://cds.linear.com/docs/en/datasheet/62001ff.pdf; ComponentLink3Description: Package Specification; ComponentLink3URL: http://cds.linear.com/docs/en/packaging/05081610_G_SO8.pdf
footprint LT-S8-8_N (SOIC, 8-Leads, Body 4.9x3.9mm, Pitch 1.27mm, IPC Medium Density)
footprint LT-S8-8_L (SOIC, 8-Leads, Body 4.9x3.9mm, Pitch 1.27mm, IPC High Density)
footprint LT-S8-8_M (SOIC, 8-Leads, Body 4.9x3.9mm, Pitch 1.27mm, IPC Low Density)
pins: 1 ~{SHDN} (in), 2 -IN (in), 3 +IN (in), 4 V- (power), 5 NC, 6 OUT (out), 7 V+ (power), 8 NC

## LT6201CS8
designator U?
Dual Channel, Low Noise, High Speed Operational Amplifier, RRIO, 165 MHz Typical GBW, 50 V/us Typical SR, 2.5 to 12.6 V, 8-Pin SOIC (S8-8), Commercial; Linear Technology Part Number: LT6201; Manufacturer: Linear Technology; PartNumber: LT6201CS8; Channels (#): 2; GBW (MHz) Typical: 165; Is (mA) Typical: 20; SR (V/us) Typical: 50; Vos (mV) Guaranteed: 1; Vos (mV) Typical: 0.1; Vs Max (V): 12.6; Vs Min (V): 2.5; DatasheetVersion: Rev. F; PackageVersion: Rev G; PackageReference: LT-S8-8; PackageDescription: 8-Pin Plastic Small Outline, Body 4.9 x 3.9 mm, Pitch 1.27 mm; Supplier 1: Digi-Key; Supplier Part Number 1: LT6201CS8-ND; Type: VFB; Mounting Technology: Surface Mount; ComponentLink1Description: Manufacturer URL; ComponentLink1URL: http://www.linear.com/; ComponentLink2Description: Datasheet; ComponentLink2URL: http://cds.linear.com/docs/en/datasheet/62001ff.pdf; ComponentLink3Description: Package Specification; ComponentLink3URL: http://cds.linear.com/docs/en/packaging/05081610_G_SO8.pdf
footprint LT-S8-8_N (SOIC, 8-Leads, Body 4.9x3.9mm, Pitch 1.27mm, IPC Medium Density)
footprint LT-S8-8_L (SOIC, 8-Leads, Body 4.9x3.9mm, Pitch 1.27mm, IPC High Density)
footprint LT-S8-8_M (SOIC, 8-Leads, Body 4.9x3.9mm, Pitch 1.27mm, IPC Low Density)
pins: 1 ~{SHDN} (in), 2 -IN (in), 3 +IN (in), 4 V- (power), 5 NC, 6 OUT (out), 7 V+ (power), 8 NC

## LT6201CS8#PBF
designator U?
Dual Channel, Low Noise, High Speed Operational Amplifier, RRIO, 165 MHz Typical GBW, 50 V/us Typical SR, 2.5 to 12.6 V, 8-Pin SOIC (S8-8), Commercial, Pb-Free; Linear Technology Part Number: LT6201; Manufacturer: Linear Technology; PartNumber: LT6201CS8#PBF; Channels (#): 2; GBW (MHz) Typical: 165; Is (mA) Typical: 20; SR (V/us) Typical: 50; Vos (mV) Guaranteed: 1; Vos (mV) Typical: 0.1; Vs Max (V): 12.6; Vs Min (V): 2.5; DatasheetVersion: Rev. F; PackageVersion: Rev G; PackageReference: LT-S8-8; PackageDescription: 8-Pin Plastic Small Outline, Body 4.9 x 3.9 mm, Pitch 1.27 mm; Supplier 1: Digi-Key; Supplier Part Number 1: LT6201CS8#PBF-ND; Supplier 2: Newark; Supplier Part Number 2: 57M9193; RoHS: Pb-Free; Type: VFB; Mounting Technology: Surface Mount; ComponentLink1Description: Manufacturer URL; ComponentLink1URL: http://www.linear.com/; ComponentLink2Description: Datasheet; ComponentLink2URL: http://cds.linear.com/docs/en/datasheet/62001ff.pdf; ComponentLink3Description: Package Specification; ComponentLink3URL: http://cds.linear.com/docs/en/packaging/05081610_G_SO8.pdf
footprint LT-S8-8_N (SOIC, 8-Leads, Body 4.9x3.9mm, Pitch 1.27mm, IPC Medium Density)
footprint LT-S8-8_L (SOIC, 8-Leads, Body 4.9x3.9mm, Pitch 1.27mm, IPC High Density)
footprint LT-S8-8_M (SOIC, 8-Leads, Body 4.9x3.9mm, Pitch 1.27mm, IPC Low Density)
pins: 1 ~{SHDN} (in), 2 -IN (in), 3 +IN (in), 4 V- (power), 5 NC, 6 OUT (out), 7 V+ (power), 8 NC

## LT6201CS8#TR
designator U?
Dual Channel, Low Noise, High Speed Operational Amplifier, RRIO, 165 MHz Typical GBW, 50 V/us Typical SR, 2.5 to 12.6 V, 8-Pin SOIC (S8-8), Commercial, Reel; Linear Technology Part Number: LT6201; Manufacturer: Linear Technology; PartNumber: LT6201CS8#TR; Channels (#): 2; GBW (MHz) Typical: 165; Is (mA) Typical: 20; SR (V/us) Typical: 50; Vos (mV) Guaranteed: 1; Vos (mV) Typical: 0.1; Vs Max (V): 12.6; Vs Min (V): 2.5; DatasheetVersion: Rev. F; PackageVersion: Rev G; PackageReference: LT-S8-8; PackageDescription: 8-Pin Plastic Small Outline, Body 4.9 x 3.9 mm, Pitch 1.27 mm; Supplier 1: Digi-Key; Supplier Part Number 1: LT6201CS8#TR-ND; Packing: Reel; Type: VFB; Mounting Technology: Surface Mount; ComponentLink1Description: Manufacturer URL; ComponentLink1URL: http://www.linear.com/; ComponentLink2Description: Datasheet; ComponentLink2URL: http://cds.linear.com/docs/en/datasheet/62001ff.pdf; ComponentLink3Description: Package Specification; ComponentLink3URL: http://cds.linear.com/docs/en/packaging/05081610_G_SO8.pdf
footprint LT-S8-8_N (SOIC, 8-Leads, Body 4.9x3.9mm, Pitch 1.27mm, IPC Medium Density)
footprint LT-S8-8_L (SOIC, 8-Leads, Body 4.9x3.9mm, Pitch 1.27mm, IPC High Density)
footprint LT-S8-8_M (SOIC, 8-Leads, Body 4.9x3.9mm, Pitch 1.27mm, IPC Low Density)
pins: 1 ~{SHDN} (in), 2 -IN (in), 3 +IN (in), 4 V- (power), 5 NC, 6 OUT (out), 7 V+ (power), 8 NC

## LT6201CS8#TRPBF
designator U?
Dual Channel, Low Noise, High Speed Operational Amplifier, RRIO, 165 MHz Typical GBW, 50 V/us Typical SR, 2.5 to 12.6 V, 8-Pin SOIC (S8-8), Commercial, Pb-Free, Reel; Linear Technology Part Number: LT6201; Manufacturer: Linear Technology; PartNumber: LT6201CS8#TRPBF; Channels (#): 2; GBW (MHz) Typical: 165; Is (mA) Typical: 20; SR (V/us) Typical: 50; Vos (mV) Guaranteed: 1; Vos (mV) Typical: 0.1; Vs Max (V): 12.6; Vs Min (V): 2.5; DatasheetVersion: Rev. F; PackageVersion: Rev G; PackageReference: LT-S8-8; PackageDescription: 8-Pin Plastic Small Outline, Body 4.9 x 3.9 mm, Pitch 1.27 mm; Supplier 1: Digi-Key; Supplier Part Number 1: LT6201CS8#TRPBF-ND; Supplier 2: Newark; Supplier Part Number 2: 57M9195; Packing: Reel; RoHS: Pb-Free; Type: VFB; Mounting Technology: Surface Mount; ComponentLink1Description: Manufacturer URL; ComponentLink1URL: http://www.linear.com/; ComponentLink2Description: Datasheet; ComponentLink2URL: http://cds.linear.com/docs/en/datasheet/62001ff.pdf; ComponentLink3Description: Package Specification; ComponentLink3URL: http://cds.linear.com/docs/en/packaging/05081610_G_SO8.pdf
footprint LT-S8-8_N (SOIC, 8-Leads, Body 4.9x3.9mm, Pitch 1.27mm, IPC Medium Density)
footprint LT-S8-8_L (SOIC, 8-Leads, Body 4.9x3.9mm, Pitch 1.27mm, IPC High Density)
footprint LT-S8-8_M (SOIC, 8-Leads, Body 4.9x3.9mm, Pitch 1.27mm, IPC Low Density)
pins: 1 ~{SHDN} (in), 2 -IN (in), 3 +IN (in), 4 V- (power), 5 NC, 6 OUT (out), 7 V+ (power), 8 NC

## LT6201IS8
designator U?
Dual Channel, Low Noise, High Speed Operational Amplifier, RRIO, 165 MHz Typical GBW, 50 V/us Typical SR, 2.5 to 12.6 V, 8-Pin SOIC (S8-8), Industrial; Linear Technology Part Number: LT6201; Manufacturer: Linear Technology; PartNumber: LT6201IS8; Channels (#): 2; GBW (MHz) Typical: 165; Is (mA) Typical: 20; SR (V/us) Typical: 50; Vos (mV) Guaranteed: 1; Vos (mV) Typical: 0.1; Vs Max (V): 12.6; Vs Min (V): 2.5; DatasheetVersion: Rev. F; PackageVersion: Rev G; PackageReference: LT-S8-8; PackageDescription: 8-Pin Plastic Small Outline, Body 4.9 x 3.9 mm, Pitch 1.27 mm; Supplier 1: Digi-Key; Supplier Part Number 1: LT6201IS8-ND; Type: VFB; Mounting Technology: Surface Mount; ComponentLink1Description: Manufacturer URL; ComponentLink1URL: http://www.linear.com/; ComponentLink2Description: Datasheet; ComponentLink2URL: http://cds.linear.com/docs/en/datasheet/62001ff.pdf; ComponentLink3Description: Package Specification; ComponentLink3URL: http://cds.linear.com/docs/en/packaging/05081610_G_SO8.pdf
footprint LT-S8-8_N (SOIC, 8-Leads, Body 4.9x3.9mm, Pitch 1.27mm, IPC Medium Density)
footprint LT-S8-8_L (SOIC, 8-Leads, Body 4.9x3.9mm, Pitch 1.27mm, IPC High Density)
footprint LT-S8-8_M (SOIC, 8-Leads, Body 4.9x3.9mm, Pitch 1.27mm, IPC Low Density)
pins: 1 ~{SHDN} (in), 2 -IN (in), 3 +IN (in), 4 V- (power), 5 NC, 6 OUT (out), 7 V+ (power), 8 NC

## LT6201IS8#PBF
designator U?
Dual Channel, Low Noise, High Speed Operational Amplifier, RRIO, 165 MHz Typical GBW, 50 V/us Typical SR, 2.5 to 12.6 V, 8-Pin SOIC (S8-8), Industrial, Pb-Free; Linear Technology Part Number: LT6201; Manufacturer: Linear Technology; PartNumber: LT6201IS8#PBF; Channels (#): 2; GBW (MHz) Typical: 165; Is (mA) Typical: 20; SR (V/us) Typical: 50; Vos (mV) Guaranteed: 1; Vos (mV) Typical: 0.1; Vs Max (V): 12.6; Vs Min (V): 2.5; DatasheetVersion: Rev. F; PackageVersion: Rev G; PackageReference: LT-S8-8; PackageDescription: 8-Pin Plastic Small Outline, Body 4.9 x 3.9 mm, Pitch 1.27 mm; Supplier 1: Digi-Key; Supplier Part Number 1: LT6201IS8#PBF-ND; RoHS: Pb-Free; Type: VFB; Mounting Technology: Surface Mount; ComponentLink1Description: Manufacturer URL; ComponentLink1URL: http://www.linear.com/; ComponentLink2Description: Datasheet; ComponentLink2URL: http://cds.linear.com/docs/en/datasheet/62001ff.pdf; ComponentLink3Description: Package Specification; ComponentLink3URL: http://cds.linear.com/docs/en/packaging/05081610_G_SO8.pdf
footprint LT-S8-8_N (SOIC, 8-Leads, Body 4.9x3.9mm, Pitch 1.27mm, IPC Medium Density)
footprint LT-S8-8_L (SOIC, 8-Leads, Body 4.9x3.9mm, Pitch 1.27mm, IPC High Density)
footprint LT-S8-8_M (SOIC, 8-Leads, Body 4.9x3.9mm, Pitch 1.27mm, IPC Low Density)
pins: 1 ~{SHDN} (in), 2 -IN (in), 3 +IN (in), 4 V- (power), 5 NC, 6 OUT (out), 7 V+ (power), 8 NC

## LT6201IS8#TR
designator U?
Dual Channel, Low Noise, High Speed Operational Amplifier, RRIO, 165 MHz Typical GBW, 50 V/us Typical SR, 2.5 to 12.6 V, 8-Pin SOIC (S8-8), Industrial, Reel; Linear Technology Part Number: LT6201; Manufacturer: Linear Technology; PartNumber: LT6201IS8#TR; Channels (#): 2; GBW (MHz) Typical: 165; Is (mA) Typical: 20; SR (V/us) Typical: 50; Vos (mV) Guaranteed: 1; Vos (mV) Typical: 0.1; Vs Max (V): 12.6; Vs Min (V): 2.5; DatasheetVersion: Rev. F; PackageVersion: Rev G; PackageReference: LT-S8-8; PackageDescription: 8-Pin Plastic Small Outline, Body 4.9 x 3.9 mm, Pitch 1.27 mm; Supplier 1: Digi-Key; Supplier Part Number 1: LT6201IS8#TR-ND; Packing: Reel; Type: VFB; Mounting Technology: Surface Mount; ComponentLink1Description: Manufacturer URL; ComponentLink1URL: http://www.linear.com/; ComponentLink2Description: Datasheet; ComponentLink2URL: http://cds.linear.com/docs/en/datasheet/62001ff.pdf; ComponentLink3Description: Package Specification; ComponentLink3URL: http://cds.linear.com/docs/en/packaging/05081610_G_SO8.pdf
footprint LT-S8-8_N (SOIC, 8-Leads, Body 4.9x3.9mm, Pitch 1.27mm, IPC Medium Density)
footprint LT-S8-8_L (SOIC, 8-Leads, Body 4.9x3.9mm, Pitch 1.27mm, IPC High Density)
footprint LT-S8-8_M (SOIC, 8-Leads, Body 4.9x3.9mm, Pitch 1.27mm, IPC Low Density)
pins: 1 ~{SHDN} (in), 2 -IN (in), 3 +IN (in), 4 V- (power), 5 NC, 6 OUT (out), 7 V+ (power), 8 NC

## LT6201IS8#TRPBF
designator U?
Dual Channel, Low Noise, High Speed Operational Amplifier, RRIO, 165 MHz Typical GBW, 50 V/us Typical SR, 2.5 to 12.6 V, 8-Pin SOIC (S8-8), Industrial, Pb-Free, Reel; Linear Technology Part Number: LT6201; Manufacturer: Linear Technology; PartNumber: LT6201IS8#TRPBF; Channels (#): 2; GBW (MHz) Typical: 165; Is (mA) Typical: 20; SR (V/us) Typical: 50; Vos (mV) Guaranteed: 1; Vos (mV) Typical: 0.1; Vs Max (V): 12.6; Vs Min (V): 2.5; DatasheetVersion: Rev. F; PackageVersion: Rev G; PackageReference: LT-S8-8; PackageDescription: 8-Pin Plastic Small Outline, Body 4.9 x 3.9 mm, Pitch 1.27 mm; Supplier 1: Digi-Key; Supplier Part Number 1: LT6201IS8#TRPBF-ND; Supplier 2: Newark; Supplier Part Number 2: 57M9199; Packing: Reel; RoHS: Pb-Free; Type: VFB; Mounting Technology: Surface Mount; ComponentLink1Description: Manufacturer URL; ComponentLink1URL: http://www.linear.com/; ComponentLink2Description: Datasheet; ComponentLink2URL: http://cds.linear.com/docs/en/datasheet/62001ff.pdf; ComponentLink3Description: Package Specification; ComponentLink3URL: http://cds.linear.com/docs/en/packaging/05081610_G_SO8.pdf
footprint LT-S8-8_N (SOIC, 8-Leads, Body 4.9x3.9mm, Pitch 1.27mm, IPC Medium Density)
footprint LT-S8-8_L (SOIC, 8-Leads, Body 4.9x3.9mm, Pitch 1.27mm, IPC High Density)
footprint LT-S8-8_M (SOIC, 8-Leads, Body 4.9x3.9mm, Pitch 1.27mm, IPC Low Density)
pins: 1 ~{SHDN} (in), 2 -IN (in), 3 +IN (in), 4 V- (power), 5 NC, 6 OUT (out), 7 V+ (power), 8 NC

## LT6202CS5
designator U?
Single Channel, Low Noise, Lower Power Operational Amplifier, RRIO, 100 MHz Typical GBW, 25 V/us Typical SR, 2.5 to 12.6 V, 5-Pin SOT23 (S5-5), Commercial; Linear Technology Part Number: LT6202; Manufacturer: Linear Technology; PartNumber: LT6202CS5; Channels (#): 1; GBW (MHz) Typical: 100; Is (mA) Typical: 2.8; SR (V/us) Typical: 25; Vos (mV) Guaranteed: 0.5; Vos (mV) Typical: 0.1; Vs Max (V): 12.6; Vs Min (V): 2.5; DatasheetVersion: Rev. D; PackageReference: LT-S5-5-TSOT-23; PackageDescription: 5-Lead Plastic TSOT-23, Body 1.63 x 2.90 mm, Pitch 0.95 mm; Type: VFB; Mounting Technology: Surface Mount; Code_JEDEC: MO-193; ComponentLink1Description: Manufacturer URL; ComponentLink1URL: http://www.linear.com/; ComponentLink2Description: Datasheet; ComponentLink2URL: http://cds.linear.com/docs/en/datasheet/620234fd.pdf; ComponentLink3Description: Package Specification; ComponentLink3URL: http://cds.linear.com/docs/en/packaging/SOT_5_05-08-1635.pdf
footprint LT-S5-5-TSOT-23_N (SOT23, 5-Leads, Body 2.90x1.63mm, Pitch 0.95mm, IPC Medium Density)
footprint LT-S5-5-TSOT-23_L (SOT23, 5-Leads, Body 2.90x1.63mm, Pitch 0.95mm, IPC High Density)
footprint LT-S5-5-TSOT-23_M (SOT23, 5-Leads, Body 2.90x1.63mm, Pitch 0.95mm, IPC Low Density)
pins: 1 OUT (out) "Output.", 2 V- (power) "Negative Supply Voltage, Usually -5V.", 3 +IN (in) "Noninverting Input.", 4 -IN (in) "Inverting Input.", 5 V+ (power) "Positive Supply Voltage, Usually 5V."

## LT6202CS5#PBF
designator U?
Single Channel, Low Noise, High Speed Operational Amplifier, RRIO, 100 MHz Typical GBW, 25 V/us Typical SR, 2.5 to 12.6 V, 5-Pin SOT23 (S5-5), Commercial, Pb-Free; Linear Technology Part Number: LT6202; Manufacturer: Linear Technology; PartNumber: LT6202CS5#PBF; Channels (#): 1; GBW (MHz) Typical: 100; Is (mA) Typical: 2.8; SR (V/us) Typical: 25; Vos (mV) Guaranteed: 0.5; Vos (mV) Typical: 0.1; Vs Max (V): 12.6; Vs Min (V): 2.5; DatasheetVersion: Rev. D; PackageReference: LT-S5-5-TSOT-23; PackageDescription: 5-Lead Plastic TSOT-23, Body 1.63 x 2.90 mm, Pitch 0.95 mm; Supplier 1: Farnell; Supplier Part Number 1: 2308221; Supplier 2: Newark; Supplier Part Number 2: 78T4165; RoHS: Pb-Free; Type: VFB; Mounting Technology: Surface Mount; Code_JEDEC: MO-193; ComponentLink1Description: Manufacturer URL; ComponentLink1URL: http://www.linear.com/; ComponentLink2Description: Datasheet; ComponentLink2URL: http://cds.linear.com/docs/en/datasheet/620234fd.pdf; ComponentLink3Description: Package Specification; ComponentLink3URL: http://cds.linear.com/docs/en/packaging/SOT_5_05-08-1635.pdf
footprint LT-S5-5-TSOT-23_N (SOT23, 5-Leads, Body 2.90x1.63mm, Pitch 0.95mm, IPC Medium Density)
footprint LT-S5-5-TSOT-23_L (SOT23, 5-Leads, Body 2.90x1.63mm, Pitch 0.95mm, IPC High Density)
footprint LT-S5-5-TSOT-23_M (SOT23, 5-Leads, Body 2.90x1.63mm, Pitch 0.95mm, IPC Low Density)
pins: 1 OUT (out) "Output.", 2 V- (power) "Negative Supply Voltage, Usually -5V.", 3 +IN (in) "Noninverting Input.", 4 -IN (in) "Inverting Input.", 5 V+ (power) "Positive Supply Voltage, Usually 5V."

## LT6202CS5#TR
designator U?
Single Channel, Low Noise, Lower Power Operational Amplifier, RRIO, 100 MHz Typical GBW, 25 V/us Typical SR, 2.5 to 12.6 V, 5-Pin SOT23 (S5-5), Commercial, Reel; Linear Technology Part Number: LT6202; Manufacturer: Linear Technology; PartNumber: LT6202CS5#TR; Channels (#): 1; GBW (MHz) Typical: 100; Is (mA) Typical: 2.8; SR (V/us) Typical: 25; Vos (mV) Guaranteed: 0.5; Vos (mV) Typical: 0.1; Vs Max (V): 12.6; Vs Min (V): 2.5; DatasheetVersion: Rev. D; PackageReference: LT-S5-5-TSOT-23; PackageDescription: 5-Lead Plastic TSOT-23, Body 1.63 x 2.90 mm, Pitch 0.95 mm; Supplier 1: Digi-Key; Supplier Part Number 1: LT6202CS5#TR-ND; Packing: Reel; Type: VFB; Mounting Technology: Surface Mount; Code_JEDEC: MO-193; ComponentLink1Description: Manufacturer URL; ComponentLink1URL: http://www.linear.com/; ComponentLink2Description: Datasheet; ComponentLink2URL: http://cds.linear.com/docs/en/datasheet/620234fd.pdf; ComponentLink3Description: Package Specification; ComponentLink3URL: http://cds.linear.com/docs/en/packaging/SOT_5_05-08-1635.pdf
footprint LT-S5-5-TSOT-23_N (SOT23, 5-Leads, Body 2.90x1.63mm, Pitch 0.95mm, IPC Medium Density)
footprint LT-S5-5-TSOT-23_L (SOT23, 5-Leads, Body 2.90x1.63mm, Pitch 0.95mm, IPC High Density)
footprint LT-S5-5-TSOT-23_M (SOT23, 5-Leads, Body 2.90x1.63mm, Pitch 0.95mm, IPC Low Density)
pins: 1 OUT (out) "Output.", 2 V- (power) "Negative Supply Voltage, Usually -5V.", 3 +IN (in) "Noninverting Input.", 4 -IN (in) "Inverting Input.", 5 V+ (power) "Positive Supply Voltage, Usually 5V."

## LT6202CS5#TRM
designator U?
Single Channel, Low Noise, Lower Power Operational Amplifier, RRIO, 100 MHz Typical GBW, 25 V/us Typical SR, 2.5 to 12.6 V, 5-Pin SOT23 (S5-5), Commercial, Mini Reel; Linear Technology Part Number: LT6202; Manufacturer: Linear Technology; PartNumber: LT6202CS5#TRM; Channels (#): 1; GBW (MHz) Typical: 100; Is (mA) Typical: 2.8; SR (V/us) Typical: 25; Vos (mV) Guaranteed: 0.5; Vos (mV) Typical: 0.1; Vs Max (V): 12.6; Vs Min (V): 2.5; DatasheetVersion: Rev. D; PackageReference: LT-S5-5-TSOT-23; PackageDescription: 5-Lead Plastic TSOT-23, Body 1.63 x 2.90 mm, Pitch 0.95 mm; Supplier 1: Digi-Key; Supplier Part Number 1: LT6202CS5#TRM-ND; Packing: Mini Reel; Type: VFB; Mounting Technology: Surface Mount; Code_JEDEC: MO-193; ComponentLink1Description: Manufacturer URL; ComponentLink1URL: http://www.linear.com/; ComponentLink2Description: Datasheet; ComponentLink2URL: http://cds.linear.com/docs/en/datasheet/620234fd.pdf; ComponentLink3Description: Package Specification; ComponentLink3URL: http://cds.linear.com/docs/en/packaging/SOT_5_05-08-1635.pdf
footprint LT-S5-5-TSOT-23_N (SOT23, 5-Leads, Body 2.90x1.63mm, Pitch 0.95mm, IPC Medium Density)
footprint LT-S5-5-TSOT-23_L (SOT23, 5-Leads, Body 2.90x1.63mm, Pitch 0.95mm, IPC High Density)
footprint LT-S5-5-TSOT-23_M (SOT23, 5-Leads, Body 2.90x1.63mm, Pitch 0.95mm, IPC Low Density)
pins: 1 OUT (out) "Output.", 2 V- (power) "Negative Supply Voltage, Usually -5V.", 3 +IN (in) "Noninverting Input.", 4 -IN (in) "Inverting Input.", 5 V+ (power) "Positive Supply Voltage, Usually 5V."